# EAGLE library part IS31SE5000 (library IS31SE5000)
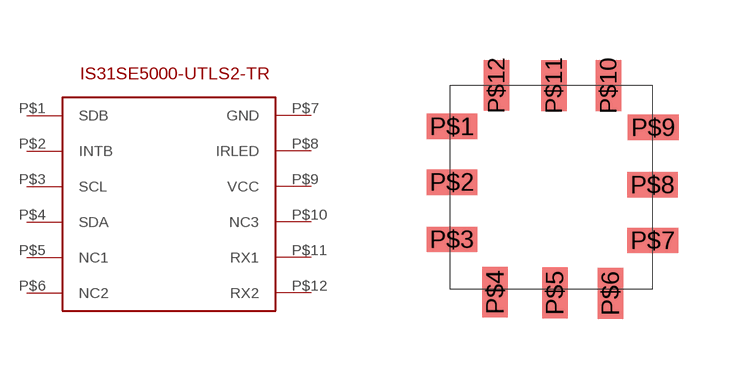
[diagram p0: symbol with the pads of IS31SE5000; footprint IS31SE5000]

Designator prefix -

## IS31SE5000  [IS31SE5000]
P$1  SDB
P$2  INTB
P$3  SCL
P$4  SDA
P$5  NC1
P$6  NC2
P$7  GND
P$8  IRLED
P$9  VCC
P$10  NC3
P$11  RX1
P$12  RX2

## Footprint IS31SE5000 (pad centres in mm)
Designed by Prem and Pranav
smd 1.27 x 0.635: P$1 -2.487,1.519; P$2 -2.487,0.127; P$3 -2.487,-1.308; P$7 2.532,-1.333; P$8 2.53,0.058; P$9 2.55,1.494
smd 0.635 x 1.27: P$4 -1.407,-2.626; P$5 0.086,-2.644; P$6 1.478,-2.659; P$10 1.427,2.543; P$11 0.064,2.545; P$12 -1.374,2.55